# Altium footprint library USB2514B-AEZC-Footprint-1.PcbLib: 1 footprints
Each footprint in its own frame and in the unit in brackets; x right, y up, seen from the top. Pads: shape width x height; smd on the part's side, far side on the other; paste and mask are expansions set on the pad; w line width, h text height; cw(c..) or ccw(c..) is an arc to the next point about the centre after c.
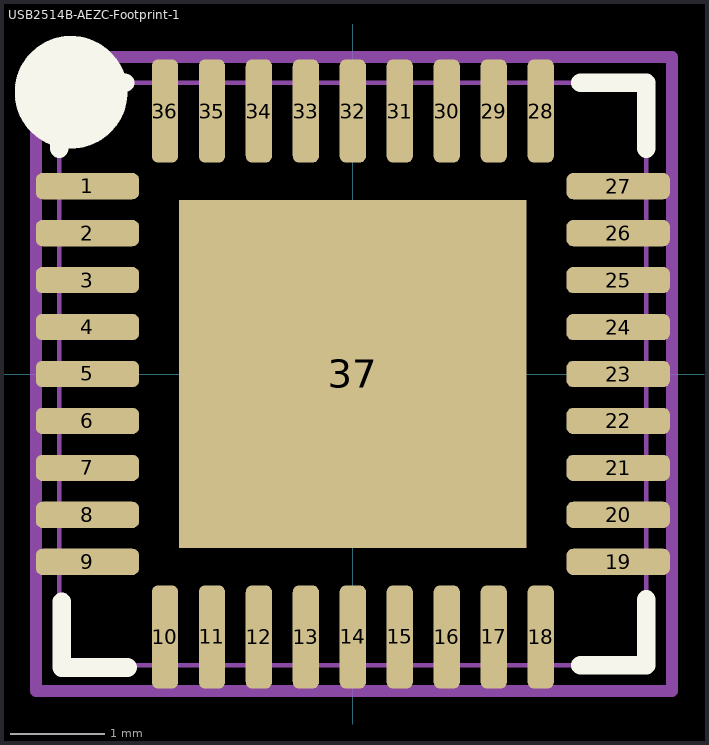
[diagram p0: the footprint, top view; thin cyan lines are the x and y axes]

## USB2514B-AEZC-Footprint-1 [mm]
pads (37):
  rrect50% 1.1x0.28 smd paste+0 mask+0.05: 1(-2.825,2) 2(-2.825,1.5) 3(-2.825,1) 4(-2.825,0.5) 5(-2.825,0) 6(-2.825,-0.5) 7(-2.825,-1) 8(-2.825,-1.5) 9(-2.825,-2) 19(2.825,-2) 20(2.825,-1.5) 21(2.825,-1) 22(2.825,-0.5) 23(2.825,0) 24(2.825,0.5) 25(2.825,1) 26(2.825,1.5) 27(2.825,2)
  rrect50% 0.28x1.1 smd paste+0 mask+0.05: 10(-2,-2.8) 11(-1.5,-2.8) 12(-1,-2.8) 13(-0.5,-2.8) 14(0,-2.8) 15(0.5,-2.8) 16(1,-2.8) 17(1.5,-2.8) 18(2,-2.8) 28(2,2.8) 29(1.5,2.8) 30(1,2.8) 31(0.5,2.8) 32(0,2.8) 33(-0.5,2.8) 34(-1,2.8) 35(-1.5,2.8) 36(-2,2.8)
  rect 3.7x3.7 smd paste+0 mask+0.05: 37(0,0)
Top Overlay:
  circle w0.6: c-3,3 r0.3
  lines w0.2: -3.125,2.4 -3.125,3.1 -2.425,3.1 ; -3.1,-2.425 -3.1,-3.125 -2.4,-3.125 ; 2.425,-3.1 3.125,-3.1 3.125,-2.4 ; 2.425,3.1 3.125,3.1 3.125,2.4
Mechanical 2:
  lines w0.051: -3.125,-3.1 -3.125,3.1 3.125,3.1 3.125,-3.1 -3.125,-3.1
Mechanical 4:
  lines w0.127: -0.254,0 0.254,0 ; 0,-0.254 0,0.254 ; -3.375,-3.375 -3.375,3.375 3.4,3.375 3.4,-3.375 -3.375,-3.375
3D body "User Library-QFN36 (6x6).step": height 0.9, standoff 0.01, extent -3.102,-3.103 3.103,3.103